# Altium integrated library Sensors_Integrated_Library.IntLib: 19 symbols
Pins are listed as number, name and electrical type; pins without a type are passive.

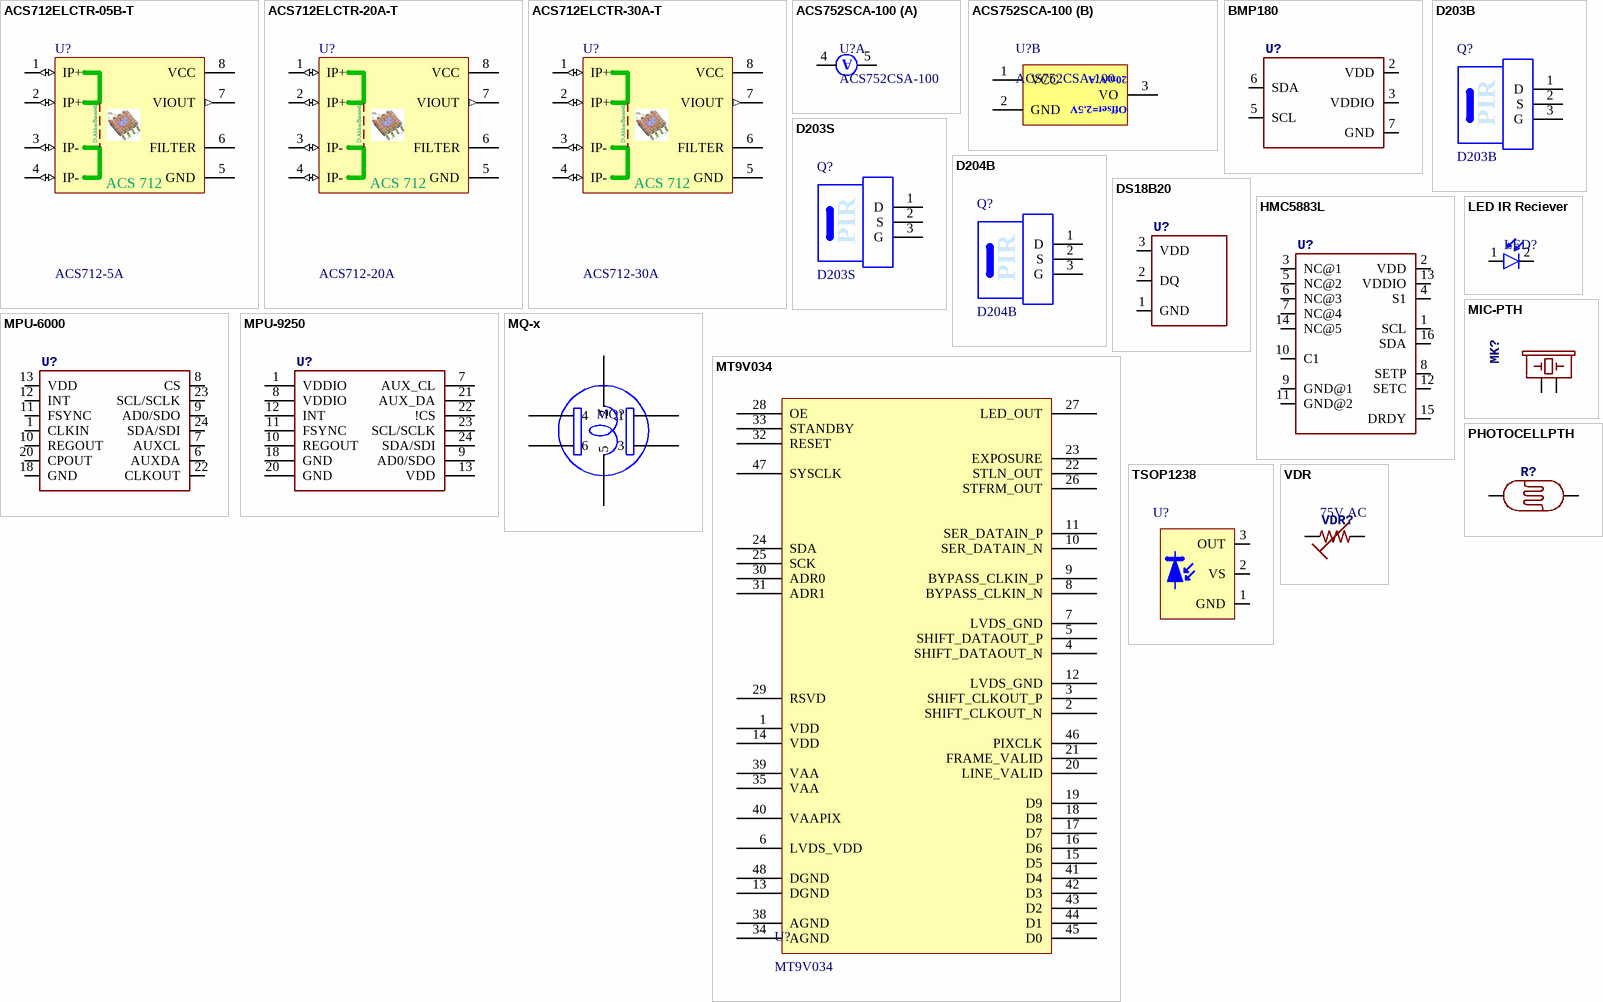
[diagram p0: symbols ACS712ELCTR-05B-T to VDR]

## ACS712ELCTR-05B-T
designator U?, comment ACS712-5A
Fully Integrated, Hall Effect-Based Linear Current Sensor IC  with 2.1 kVRMS Isolation and a Low-Resistance Current Conductor; Published: 2017-1-15; DatasheetVersion: Copyright ©2006-2013, Allegro MicroSystems, LLC; PackageVersion: revF, Apr-2008; PackageReference: 8 Lead SOIC; Publisher: Abbas Basereh; PackageDescription: 8-Lead, 0.208" Body, Plastic Small Outline Package (EIAJ); Supplier 1: Digi-Key; Supplier Part Number 1: ACS712ELCTR-05B-T; Supplier 2: Farnell; Supplier 3: Mouser; ComponentLink1Description: Manufacturer Link; ComponentLink4Description: http://www.allegromicro.com/; ComponentLink4URL: http://www.allegromicro.com/
footprint 8S2_N (SOP, 8-Leads, Body 5.3x5.3mm, Pitch 1.27mm, IPC Medium Density)
footprint 8S2_L (SOP, 8-Leads, Body 5.3x5.3mm, Pitch 1.27mm, IPC High Density)
footprint 8S2_M (SOP, 8-Leads, Body 5.3x5.3mm, Pitch 1.27mm, IPC Low Density)
pins: 1 IP+ (io), 2 IP+ (io), 3 IP- (io), 4 IP- (io), 5 GND (power), 6 FILTER, 7 VIOUT (out), 8 VCC (power)
text: D:AbbasBasereh; ACS 712

## ACS712ELCTR-20A-T
designator U?, comment ACS712-20A
Fully Integrated, Hall Effect-Based Linear Current Sensor IC  with 2.1 kVRMS Isolation and a Low-Resistance Current Conductor; ComponentAvailability: Not recommended for new design.; Published: 2017-1-15; DatasheetVersion: Copyright ©2006-2013, Allegro MicroSystems, LLC; PackageVersion: revF, Apr-2008; PackageReference: 8 Lead SOIC; Publisher: Abbas Basereh; PackageDescription: 8-Lead, 0.208" Body, Plastic Small Outline Package (EIAJ); Supplier 1: Digi-Key; Supplier Part Number 1: ACS712ELCTR-20A-T; Supplier 2: Farnell; Supplier 3: Mouser; ComponentLink4Description: http://www.allegromicro.com/; ComponentLink4URL: http://www.allegromicro.com/
footprint 8S2_N (SOP, 8-Leads, Body 5.3x5.3mm, Pitch 1.27mm, IPC Medium Density)
footprint 8S2_L (SOP, 8-Leads, Body 5.3x5.3mm, Pitch 1.27mm, IPC High Density)
footprint 8S2_M (SOP, 8-Leads, Body 5.3x5.3mm, Pitch 1.27mm, IPC Low Density)
pins: 1 IP+ (io), 2 IP+ (io), 3 IP- (io), 4 IP- (io), 5 GND (power), 6 FILTER, 7 VIOUT (out), 8 VCC (power)
text: D:AbbasBasereh; ACS 712

## ACS712ELCTR-30A-T
designator U?, comment ACS712-30A
Fully Integrated, Hall Effect-Based Linear Current Sensor IC  with 2.1 kVRMS Isolation and a Low-Resistance Current Conductor; ComponentAvailability: Not recommended for new design.; Published: 2017-1-15; DatasheetVersion: Copyright ©2006-2013, Allegro MicroSystems, LLC; PackageVersion: revF, Apr-2008; PackageReference: 8 Lead SOIC; Publisher: Abbas Basereh; PackageDescription: 8-Lead, 0.208" Body, Plastic Small Outline Package (EIAJ); Supplier 1: Digi-Key; Supplier Part Number 1: ACS712ELCTR-30A-T; Supplier 2: Farnell; Supplier 3: Mouser; ComponentLink1Description: Manufacturer Link; ComponentLink3URL: http://www.atmel.com/dyn/resources/prod_documents/2535S.pdf; ComponentLink4Description: http://www.allegromicro.com/; ComponentLink4URL: http://www.allegromicro.com/
footprint 8S2_N (SOP, 8-Leads, Body 5.3x5.3mm, Pitch 1.27mm, IPC Medium Density)
footprint 8S2_L (SOP, 8-Leads, Body 5.3x5.3mm, Pitch 1.27mm, IPC High Density)
footprint 8S2_M (SOP, 8-Leads, Body 5.3x5.3mm, Pitch 1.27mm, IPC Low Density)
pins: 1 IP+ (io), 2 IP+ (io), 3 IP- (io), 4 IP- (io), 5 GND (power), 6 FILTER, 7 VIOUT (out), 8 VCC (power)
text: D:AbbasBasereh; ACS 712

## ACS752SCA-100
designator U?, comment ACS752CSA-100
Current Sensor; Designer: Saeid Jorablo; Company: ControTEK; Output Current: -/+ 100A; Supply Voltage: +5V; Volts Per Amper: 20mV/A; Output Offset: 2.5V; Adding Date: 1387/01/09
footprint ACS752SCA-100
part A pins: 4 Ip+, 4a, 4b, 4c, 4d, 4e, 4f, 5 Ip-, 5a, 5b, 5c, 5d, 5e, 5f
part B pins: 1 VCC (power), 2 GND (power), 3 VO
part A text: A
part B text: Offset=2.5V

## BMP180
designator U?
PROD_ID: IC-11600; SF_ID: 11823
footprint _BMP180
pins: 2 VDD (power), 3 VDDIO (power), 5 SCL, 6 SDA, 7 GND (power)

## D203B
designator Q?
Pyroelectric Infrared  Radial Sensor; Designer: Saeid Jorablo; Company: IPA CO.; Last Update Time: 2008/07/17; Value: D203B
footprint PIR-B Type (For D203B and D204B PIR Sensors)
pins: 1 D "Drain", 2 S "Source", 3 G "Ground"
text: PIR

## D203S
designator Q?
Pyroelectric Infrared  Radial Sensor; Designer: Saeid Jorablo; Company: IPA CO.; Last Update Time: 2008/07/17; Value: D203S
footprint PIR-S Type (For D203S and D204S PIR Sensors)
pins: 1 D "Drain", 2 S "Source", 3 G "Ground"
text: PIR

## D204B
designator Q?
Pyroelectric Infrared  Radial Sensor; Designer: Saeid Jorablo; Company: IPA CO.; Last Update Time: 2008/07/17; Value: D204B
footprint PIR-B Type (For D203B and D204B PIR Sensors)
pins: 1 D "Drain", 2 S "Source", 3 G "Ground"
text: PIR

## DS18B20
designator U?  (value not drawn)
STORE_ID: SEN-00245
footprint _TO92
pins: 1 GND (power), 2 DQ, 3 VDD (power)

## HMC5883L
designator U?
PROD_ID: IC-10284; SF_ID: COM-10494
footprint _LPCC-16
pins: 1 SCL, 2 VDD, 3 NC@1, 4 S1, 5 NC@2, 6 NC@3, 7 NC@4, 8 SETP, 9 GND@1, 10 C1, 11 GND@2, 12 SETC, 13 VDDIO, 14 NC@5, 15 DRDY, 16 SDA

## LED IR Reciever
designator LED?, comment IR Reciever  (value not drawn)
Infra Red Reciever Photo Diode; Designer: Saeid Jorablo; Organazation: ControTec; Adding Date: 1387/12/22
footprint LED-5mm-IR Reciver
pins: 1 A, 2 K

## MIC-PTH
designator MK?  (value not drawn)
PROD_ID: COMP-08856; SF_ID: COM-08635
footprint _MICROPHONE-PTH-9.7MM
pins: 1 GND, 2 OUT

## MPU-6000
designator U?
PROD_ID: IC-11089; SF_ID: SEN-11234
footprint _QFN-24-EP
pins: 1 CLKIN, 6 AUXDA, 7 AUXCL, 8 CS, 9 AD0/SDO, 10 REGOUT, 11 FSYNC, 12 INT, 13 VDD, 18 GND, 20 CPOUT, 22 CLKOUT, 23 SCL/SCLK, 24 SDA/SDI

## MPU-9250
designator U?
PROD_ID: IC-13192
footprint _QFN-24-EP
pins: 1 VDDIO, 7 AUX_CL, 8 VDDIO, 9 AD0/SDO, 10 REGOUT, 11 FSYNC, 12 INT, 13 VDD, 18 GND, 20 GND, 21 AUX_DA, 22 !CS, 23 SCL/SCLK, 24 SDA/SDI

## MQ-x
designator MQ?  (value not drawn)
Gas Sensor
footprint _MQ-x (Footprint not found)
pins: 1, 2, 3, 4, 5, 6

## MT9V034
designator U?
footprint MT9V034
pins: 1 VDD, 2 SHIFT_CLKOUT_N, 3 SHIFT_CLKOUT_P, 4 SHIFT_DATAOUT_N, 5 SHIFT_DATAOUT_P, 6 LVDS_VDD, 7 LVDS_GND, 8 BYPASS_CLKIN_N, 9 BYPASS_CLKIN_P, 10 SER_DATAIN_N, 11 SER_DATAIN_P, 12 LVDS_GND, 13 DGND, 14 VDD, 15 D5, 16 D6, 17 D7, 18 D8, 19 D9, 20 LINE_VALID, 21 FRAME_VALID, 22 STLN_OUT, 23 EXPOSURE, 24 SDA, 25 SCK, 26 STFRM_OUT, 27 LED_OUT, 28 OE, 29 RSVD, 30 ADR0, 31 ADR1, 32 RESET, 33 STANDBY, 34 AGND, 35 VAA, 38 AGND, 39 VAA, 40 VAAPIX, 41 D4, 42 D3, 43 D2, 44 D1, 45 D0, 46 PIXCLK, 47 SYSCLK, 48 DGND

## PHOTOCELLPTH
designator R?
PROD_ID: COMP-09129; SF_ID: SEN-09088
footprint _PHOTOCELL
pins: 1 P$1, 2 P$2

## TSOP1238
designator U?  (value not drawn)
Photo Modules for PCM Remote Control Systems; Frequency: 38 KHz; Designer: Saeid Jorablo; Company: IPA CO; Voltage: 5 V; Power: 50 mW; Adding Date: 1388/04/06
footprint TSOP1238 (IR Sensor (TV Sensor))
pins: 1 GND, 2 VS, 3 OUT

## VDR
designator VDR?  value 75V AC  (hidden comment: VDR)
footprint _RAD-0.2 (5.08mm)
footprint _RAD-0.3 (7.62mm)
pins: 1, 2